# Altium footprint library PCB - CAPACITOR - MLCC - MURATA GRM21B 0805_2012.PCBLIB: 1 footprints
Each footprint in its own frame and in the unit in brackets; x right, y up, seen from the top. Pads: shape width x height; smd on the part's side, far side on the other; paste and mask are expansions set on the pad; w line width, h text height; cw(c..) or ccw(c..) is an arc to the next point about the centre after c.
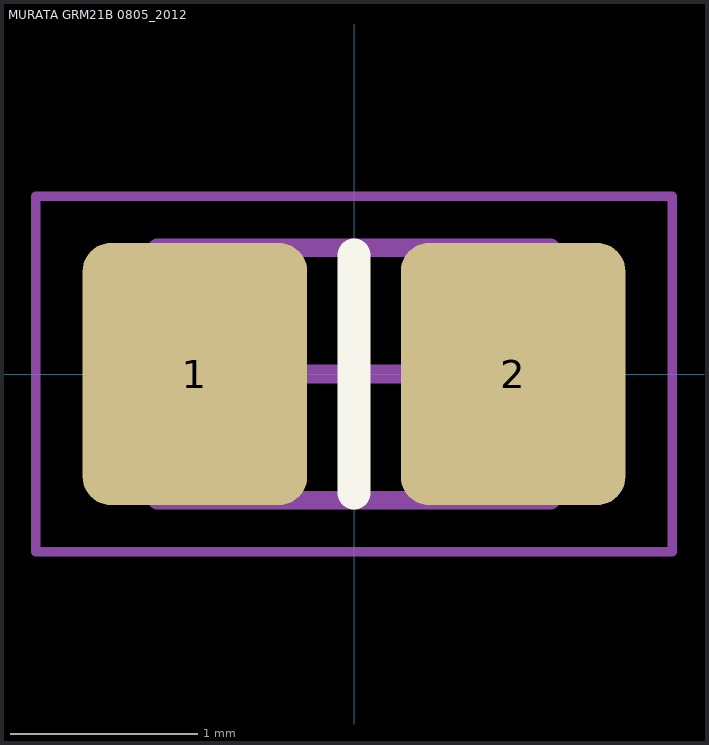
[diagram p0: the footprint, top view; thin cyan lines are the x and y axes]

## MURATA GRM21B 0805_2012 [mm] "Chip Capacitor, 2-Leads, Body 2.00x1.25mm"
height 1.25
pads (2):
  rrect25% 1.2x1.4 smd: 1(-0.85,0) 2(0.85,0)
Top Overlay:
  lines w0.178: 0,-0.635 0,0.635
Top Courtyard:
  lines w0.05: -1.7,-0.95 -1.7,0.95 1.7,0.95 1.7,-0.95 -1.7,-0.95
Top Assembly:
  lines w0.1: -1.05,-0.675 -1.05,0.675 1.05,0.675 1.05,-0.675 -1.05,-0.675
  text ".Designator" at -2.25,-0.226 h1
Top Component Center:
  lines w0.1: -0.5,0 0.5,0 ; 0,-0.5 0,0.5
3D body "CAPC2012X14N.step": height 1.35, standoff 0, extent -1.05,-0.675 1.05,0.675